# Altium footprint library Transformers.PcbLib: 55 footprints (part 3 of 4)
Each footprint in its own frame and in the unit in brackets; x right, y up, seen from the top. Pads: shape width x height; smd on the part's side, far side on the other; paste and mask are expansions set on the pad; w line width, h text height; cw(c..) or ccw(c..) is an arc to the next point about the centre after c.
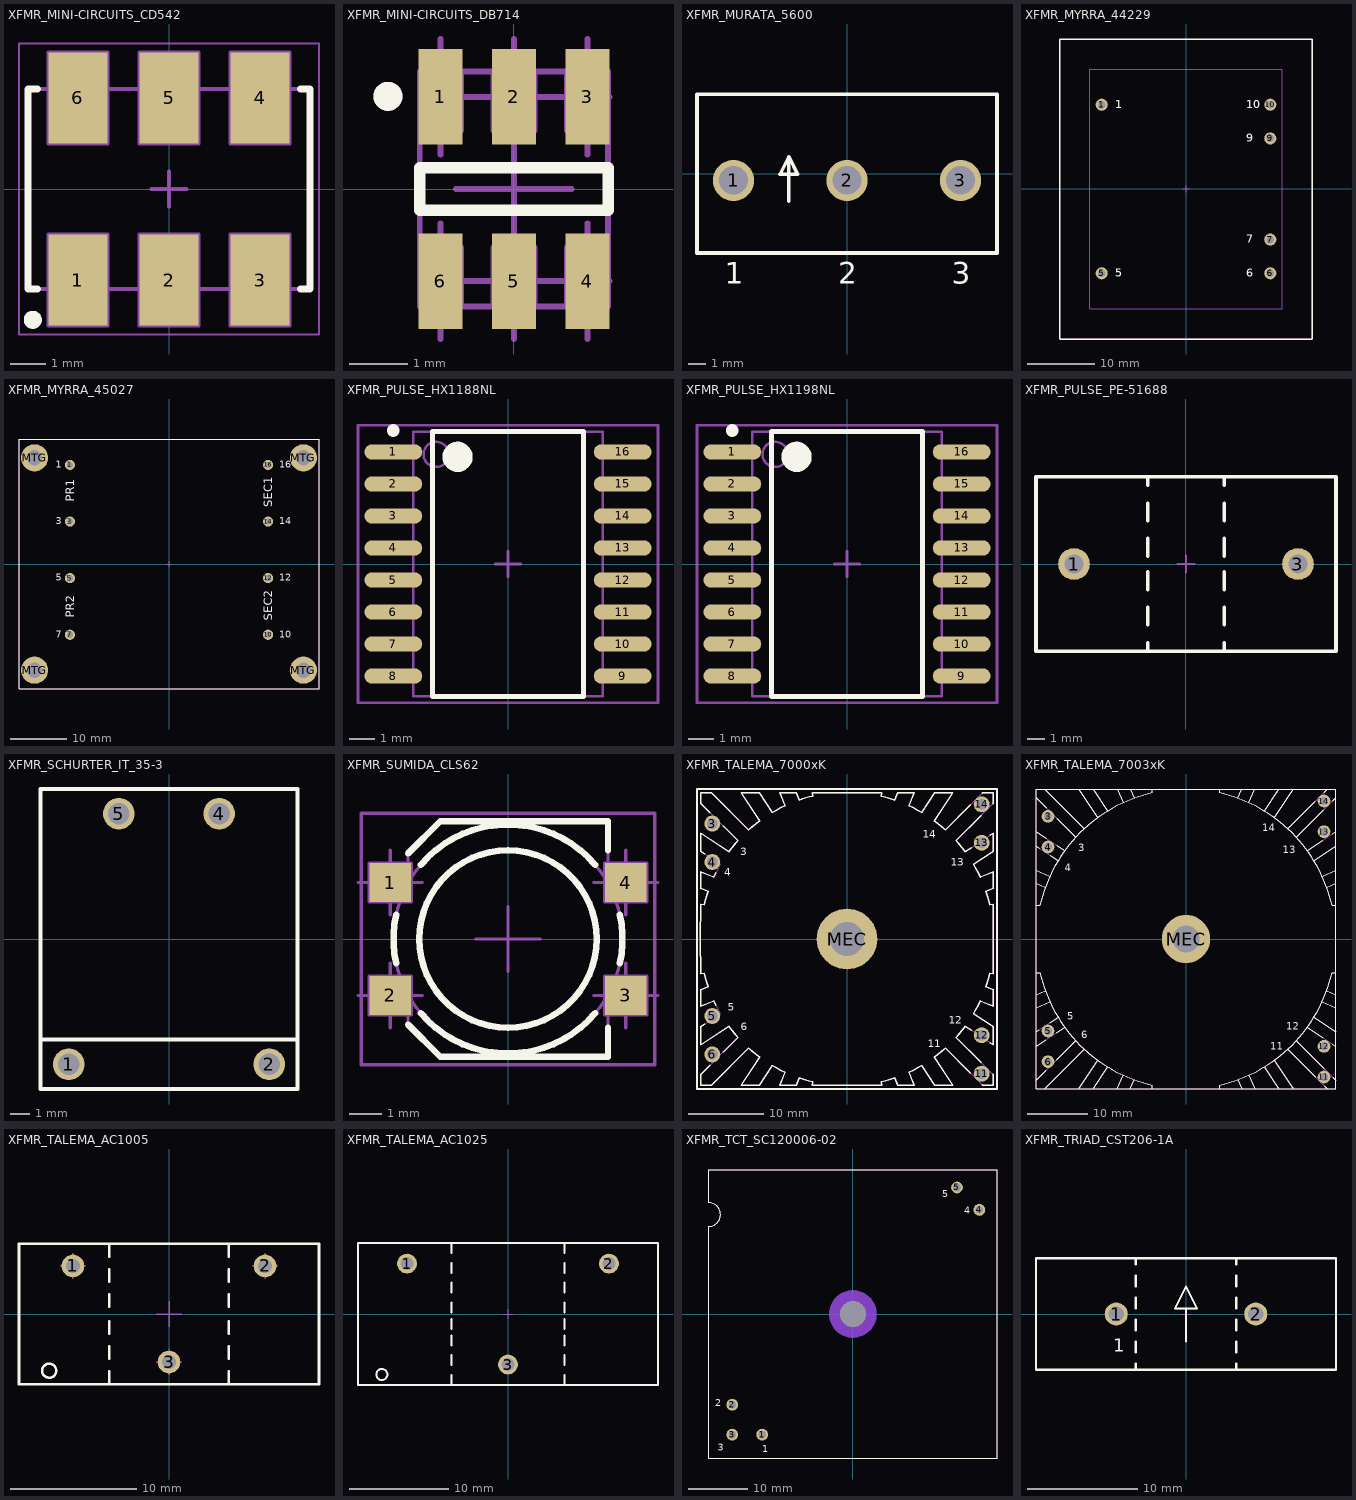
[diagram p2: the footprints below, top view; thin cyan lines are the x and y axes]

## XFMR_MINI-CIRCUITS_CD542 [mm] "MINI-CIRCUITS RF Transformer, Case CD542 - Body 7.87 X 5.58mm"
height 2.84
pads (6):
  rect 1.65x2.54 smd: 1(-2.54,-2.54) 2(0,-2.54) 3(2.54,-2.54) 4(2.54,2.54) 5(0,2.54) 6(-2.54,2.54)
Top Overlay:
  circle w0.25: c-3.8,-3.65 r0.125
  lines w0.2: -3.665,-2.79 -3.935,-2.79 -3.935,2.79 -3.665,2.79 ; 3.665,-2.79 3.935,-2.79 3.935,2.79 3.665,2.79
Mechanical 8:
  lines w0.1: -3.04,-2.54 -2.54,-2.54 ; -3.04,2.54 -2.54,2.54 ; -3.04,3.18 -2.54,3.18 ; -2.54,-3.04 -2.54,-2.54 ; -2.54,-2.04 -2.54,-2.54 ; -2.54,2.04 -2.54,2.54 ; -2.54,2.68 -2.54,3.18 ; -2.54,3.04 -2.54,2.54 ; -2.54,3.68 -2.54,3.18 ; -2.04,-2.54 -2.54,-2.54 ; -2.04,2.54 -2.54,2.54 ; -2.04,3.18 -2.54,3.18 ; -0.5,-2.54 0,-2.54 ; -0.5,0 0,0 ; -0.5,2.54 0,2.54 ; 0,-3.04 0,-2.54 ; 0,-2.04 0,-2.54 ; 0,-0.5 0,0 ; 0,0.5 0,0 ; 0,2.04 0,2.54 ; 0,3.04 0,2.54 ; 0.5,-2.54 0,-2.54 ; 0.5,0 0,0 ; 0.5,2.54 0,2.54 ; 2.04,-2.54 2.54,-2.54 ; 2.04,2.54 2.54,2.54 ; 2.54,-3.04 2.54,-2.54 ; 2.54,-2.04 2.54,-2.54 ; 2.54,2.04 2.54,2.54 ; 2.54,3.04 2.54,2.54 ; 3.04,-2.54 2.54,-2.54 ; 3.04,2.54 2.54,2.54 ; -3.365,-3.81 -3.365,-1.27 -1.715,-1.27 -1.715,-3.81 -3.365,-3.81 ; -3.365,1.27 -1.715,1.27 -1.715,3.81 -3.365,3.81 -3.365,1.27 ; -0.825,-3.81 0.825,-3.81 0.825,-1.27 -0.825,-1.27 -0.825,-3.81 ; -0.825,1.27 0.825,1.27 0.825,3.81 -0.825,3.81 -0.825,1.27 ; 1.715,-3.81 3.365,-3.81 3.365,-1.27 1.715,-1.27 1.715,-3.81 ; 1.715,1.27 3.365,1.27 3.365,3.81 1.715,3.81 1.715,1.27
Mechanical 14:
  circle w0.25: c-3.8,-3.65 r0.125
  lines w0.1: -2.92,-2.79 -2.92,-3.45 -2.16,-3.45 -2.16,-2.79 ; -2.92,2.79 -2.92,3.45 -2.16,3.45 -2.16,2.79 ; -0.38,-2.79 -0.38,-3.45 0.38,-3.45 0.38,-2.79 ; -0.38,2.79 -0.38,3.45 0.38,3.45 0.38,2.79 ; 2.16,-2.79 2.16,-3.45 2.92,-3.45 2.92,-2.79 ; 2.16,2.79 2.16,3.45 2.92,3.45 2.92,2.79 ; -3.935,-2.79 -3.935,2.79 3.935,2.79 3.935,-2.79 -3.935,-2.79
Mechanical 15:
  lines w0.05: -4.185,-4.06 -4.185,4.06 4.185,4.06 4.185,-4.06 -4.185,-4.06
3D body "XFMR_MINI-CIRCUITS_CD542.stp": height 2.84, standoff 0, extent -3.935,-3.45 3.935,3.45

## XFMR_MINI-CIRCUITS_DB714 [mm] "MINI-CIRCUITS RF Transformer, Case DB715 - Body 4.06X3.81mm"
height 4.06
pads (6):
  rect 0.76x1.65 smd: 1(-1.27,1.59) 2(0,1.59) 3(1.27,1.59) 4(1.27,-1.59) 5(0,-1.59) 6(-1.27,-1.59)
Top Overlay:
  circle w0.25: c-2.175,1.6 r0.125
  lines w0.2: -1.625,-0.365 -1.625,0.365 1.625,0.365 1.625,-0.365 -1.625,-0.365
Mechanical 8:
  lines w0.1: -1.27,-2.59 -1.27,-1.59 ; -1.27,-0.59 -1.27,-1.59 ; -1.27,0.59 -1.27,1.59 ; -1.27,2.59 -1.27,1.59 ; -1,0 0,0 ; 0,-2.59 0,-1.59 0,-0.59 ; 0,-1 0,0 ; 0,0.59 0,1.59 0,2.59 ; 0,1 0,0 ; 1,0 0,0 ; 1.27,-2.59 1.27,-1.59 1.27,-0.59 ; 1.27,0.59 1.27,1.59 1.27,2.59 ; 1.65,-1.59 -1.27,-1.59 ; 1.65,1.59 -1.27,1.59
Mechanical 14:
  circle w0.25: c-2.175,1.6 r0.125
  lines w0.1: -1.625,-2.03 -0.915,-2.03 -0.915,-1.01 -1.625,-1.01 -1.625,-2.03 ; -1.625,-2.03 -1.625,2.03 ; -1.625,-2.03 1.625,-2.03 ; -1.625,2.03 -0.915,2.03 -0.915,1.01 -1.625,1.01 -1.625,2.03 ; -1.625,2.03 1.625,2.03 ; 1.625,-2.03 1.625,-1.01 0.915,-1.01 0.915,-2.03 1.625,-2.03 ; 1.625,-2.03 1.625,2.03 ; 1.625,2.03 0.915,2.03 0.915,1.01 1.625,1.01 1.625,2.03 ; -0.355,-2.03 0.355,-2.03 0.355,-1.01 -0.355,-1.01 -0.355,-2.03 ; -0.355,1.01 0.355,1.01 0.355,2.03 -0.355,2.03 -0.355,1.01
3D body "XFMR_MINI-CIRCUITS_DB714.stp": height 3.76, standoff 0, extent -1.625,-2.03 1.625,2.03

## XFMR_MURATA_5600 [mm] "MURATA Current Sensing Transformer, Body 16.79x8.89mm, 5600 Serie"
height 20.44
pads (3):
  round 2.3 hole 1.6: 1(-6.35,-0.386) 2(0,-0.386) 3(6.35,-0.386)
Top Overlay:
  lines w0.2: -3.25,-1.55 -3.25,0.95 ; -3.25,0.95 -3.75,-0.05 -2.75,-0.05 -3.25,0.95 ; -8.395,-4.445 -8.395,4.445 8.395,4.445 8.395,-4.445 -8.395,-4.445
  text "1" at -6.84,-6.175 h1.2
  text "2" at -0.49,-6.175 h1.2
  text "3" at 5.86,-6.175 h1.2
Mechanical 8:
  lines w0.1: -6.85,-0.386 -6.35,-0.386 ; -6.35,-0.886 -6.35,-0.386 ; -6.35,0.114 -6.35,-0.386 ; -5.85,-0.386 -6.35,-0.386 ; -0.5,-0.386 0,-0.386 ; -0.5,0 0,0 ; 0,-0.886 0,-0.386 ; 0,0.5 0,0 ; 0.5,-0.386 0,-0.386 ; 0.5,0 0,0 ; 5.85,-0.386 6.35,-0.386 ; 6.35,-0.886 6.35,-0.386 ; 6.35,0.114 6.35,-0.386 ; 6.85,-0.386 6.35,-0.386
Mechanical 14:
  lines w0.1: -3.25,-1.55 -3.25,0.95 ; -3.25,0.95 -2.75,-0.05 -3.75,-0.05 -3.25,0.95 ; -8.395,-4.445 -8.395,4.445 8.395,4.445 8.395,-4.445 -8.395,-4.445
  text "1" at -6.84,-6.175 h1.2
  text "2" at -0.49,-6.175 h1.2
  text "3" at 5.86,-6.175 h1.2
3D body "XFMR_MURATA_56000.stp": height 20.19, standoff -3.6, extent -8.395,-4.445 8.395,4.445

## XFMR_MYRRA_44229 [mm] "250V to 6V EI 42x14.8, 5VA Encapsulated Transformer Serie  44000"
height 32.8
pads (6):
  round 1.8 hole 1.1: 1(-12.5,12.5) 5(-12.5,-12.5) 6(12.5,-12.5) 7(12.5,-7.5) 9(12.5,7.5) 10(12.5,12.5)
Top Overlay:
  lines w0.2: -18.75,-22.25 -18.75,22.25 18.75,22.25 18.75,-22.25 -18.75,-22.25
  text "1" at -10.475,12 h1.2
  text "5" at -10.475,-13 h1.2
  text "10" at 8.95,12 h1.2
  text "9" at 8.95,7 h1.2
  text "7" at 8.95,-8 h1.2
  text "6" at 8.95,-13 h1.2
  text "6" at 8.95,-13 h1.2
  text "7" at 8.95,-8 h1.2
  text "9" at 8.95,7 h1.2
  text "10" at 8.95,12 h1.2
  text "5" at -10.475,-13 h1.2
  text "1" at -10.475,12 h1.2
Mechanical 8:
  lines w0.1: -13,-12.5 -12.5,-12.5 ; -13,12.5 -12.5,12.5 ; -12.5,-13 -12.5,-12.5 ; -12.5,-12 -12.5,-12.5 ; -12.5,12 -12.5,12.5 ; -12.5,13 -12.5,12.5 ; -12,-12.5 -12.5,-12.5 ; -12,12.5 -12.5,12.5 ; -0.5,0 0,0 ; 0,-0.5 0,0 ; 0,0.5 0,0 ; 0.5,0 0,0 ; 12,-12.5 12.5,-12.5 ; 12,-7.5 12.5,-7.5 ; 12,7.5 12.5,7.5 ; 12,12.5 12.5,12.5 ; 12.5,-13 12.5,-12.5 ; 12.5,-12 12.5,-12.5 ; 12.5,-8 12.5,-7.5 ; 12.5,-7 12.5,-7.5 ; 12.5,7 12.5,7.5 ; 12.5,8 12.5,7.5 ; 12.5,12 12.5,12.5 ; 12.5,13 12.5,12.5 ; 13,-12.5 12.5,-12.5 ; 13,-7.5 12.5,-7.5 ; 13,7.5 12.5,7.5 ; 13,12.5 12.5,12.5
Mechanical 14:
  lines w0.1: -18.75,-22.25 -18.75,22.25 18.75,22.25 18.75,-22.25 -18.75,-22.25 ; -14.25,-17.75 14.25,-17.75 14.25,17.75 -14.25,17.75 -14.25,-17.75
3D body "XFMR_MYRRA_44229.stp": height 32.8, standoff -3.6, extent -18.75,-22.25 18.75,22.25

## XFMR_MYRRA_45027 [mm] "250V to 2x12V, UI 30, 6VA Encapsulated Transformer Serie  45000"
height 22
pads (12):
  round 1.8 hole 1.1: 1(-17.5,17.5) 3(-17.5,7.5) 5(-17.5,-2.5) 7(-17.5,-12.5) 10(17.5,-12.5) 12(17.5,-2.5) 14(17.5,7.5) 16(17.5,17.5)
  round 4.8 hole 2.7: MTG(-23.75,-18.75) MTG(-23.75,18.75) MTG(23.75,-18.75) MTG(23.75,18.75)
Top Overlay:
  lines w0.2: -26.5,-22 26.5,-22 26.5,22 -26.5,22 -26.5,-22
  text "SEC1" at 18.25,10 h1.5
  text "SEC2" at 18.25,-10 h1.5
  text "PR2" at -16.75,-9.5 h1.5
  text "PR1" at -16.75,11 h1.5
  text "1" at -20,17 h1.2
  text "3" at -20,7 h1.2
  text "5" at -20,-3 h1.2
  text "7" at -20,-13 h1.2
  text "16" at 19.5,17 h1.2
  text "14" at 19.5,7 h1.2
  text "12" at 19.5,-3 h1.2
  text "10" at 19.5,-13 h1.2
Mechanical 8:
  lines w0.1: -24.25,-18.75 -23.75,-18.75 ; -24.25,18.75 -23.75,18.75 ; -23.75,-19.25 -23.75,-18.75 ; -23.75,-18.25 -23.75,-18.75 ; -23.75,18.25 -23.75,18.75 ; -23.75,19.25 -23.75,18.75 ; -23.25,-18.75 -23.75,-18.75 ; -23.25,18.75 -23.75,18.75 ; -18,-12.5 -17.5,-12.5 ; -18,-2.5 -17.5,-2.5 ; -18,7.5 -17.5,7.5 ; -18,17.5 -17.5,17.5 ; -17.5,-13 -17.5,-12.5 ; -17.5,-12 -17.5,-12.5 ; -17.5,-3 -17.5,-2.5 ; -17.5,-2 -17.5,-2.5 ; -17.5,7 -17.5,7.5 ; -17.5,8 -17.5,7.5 ; -17.5,17 -17.5,17.5 ; -17.5,18 -17.5,17.5 ; -17,-12.5 -17.5,-12.5 ; -17,-2.5 -17.5,-2.5 ; -17,7.5 -17.5,7.5 ; -17,17.5 -17.5,17.5 ; -0.5,0 0,0 ; 0,-0.5 0,0 ; 0,0.5 0,0 ; 0.5,0 0,0 ; 17,-12.5 17.5,-12.5 ; 17,-2.5 17.5,-2.5 ; 17,7.5 17.5,7.5 ; 17,17.5 17.5,17.5 ; 17.5,-13 17.5,-12.5 ; 17.5,-12 17.5,-12.5 ; 17.5,-3 17.5,-2.5 ; 17.5,-2 17.5,-2.5 ; 17.5,7 17.5,7.5 ; 17.5,8 17.5,7.5 ; 17.5,17 17.5,17.5 ; 17.5,18 17.5,17.5 ; 18,-12.5 17.5,-12.5 ; 18,-2.5 17.5,-2.5 ; 18,7.5 17.5,7.5 ; 18,17.5 17.5,17.5 ; 23.25,-18.75 23.75,-18.75 ; 23.25,18.75 23.75,18.75 ; 23.75,-19.25 23.75,-18.75 ; 23.75,-18.25 23.75,-18.75 ; 23.75,18.25 23.75,18.75 ; 23.75,19.25 23.75,18.75 ; 24.25,-18.75 23.75,-18.75 ; 24.25,18.75 23.75,18.75
Mechanical 14:
  lines w0.1: -26.5,-22 26.5,-22 26.5,22 -26.5,22 -26.5,-22
3D body "XFMR_MYRRA_45027.stp": height 22, standoff -4, extent -26.5,-22 26.5,22

## XFMR_PULSE_HX1188NL [mm] "SOIC, 16-Leads, Body 12.7x9.65mm, Pitch 1.27mm, IPC Medium Density"
height 5.97
pads (16):
  oval 2.3x0.6 smd: 1(-4.55,4.445) 2(-4.55,3.175) 3(-4.55,1.905) 4(-4.55,0.635) 5(-4.55,-0.635) 6(-4.55,-1.905) 7(-4.55,-3.175) 8(-4.55,-4.445) 9(4.55,-4.445) 10(4.55,-3.175) 11(4.55,-1.905) 12(4.55,-0.635) 13(4.55,0.635) 14(4.55,1.905) 15(4.55,3.175) 16(4.55,4.445)
Top Overlay:
  circle w0.6: c-2,4.25 r0.3
  circle w0.25: c-4.55,5.295 r0.125
  lines w0.2: -3,-5.25 3,-5.25 3,5.25 -3,5.25 -3,-5.25
Mechanical 13:
  circle w0.1: c-2.85,4.35 r0.5
  lines w0.1: -3.75,-5.25 3.75,-5.25 3.75,5.25 -3.75,5.25 -3.75,-5.25
Mechanical 15:
  lines w0.1: -0.5,0 0.5,0 ; 0,-0.5 0,0.5 ; -5.95,-5.5 5.95,-5.5 5.95,5.5 -5.95,5.5 -5.95,-5.5
3D body: height 2.65, standoff 0, extent -3.75,-5.25 3.75,5.25

## XFMR_PULSE_HX1198NL [mm] "SOIC, 16-Leads, Body 12.7x9.65mm, Pitch 1.27mm, IPC Medium Density"
height 5.97
pads (16):
  oval 2.3x0.6 smd: 1(-4.55,4.445) 2(-4.55,3.175) 3(-4.55,1.905) 4(-4.55,0.635) 5(-4.55,-0.635) 6(-4.55,-1.905) 7(-4.55,-3.175) 8(-4.55,-4.445) 9(4.55,-4.445) 10(4.55,-3.175) 11(4.55,-1.905) 12(4.55,-0.635) 13(4.55,0.635) 14(4.55,1.905) 15(4.55,3.175) 16(4.55,4.445)
Top Overlay:
  circle w0.6: c-2,4.25 r0.3
  circle w0.25: c-4.55,5.295 r0.125
  lines w0.2: -3,-5.25 3,-5.25 3,5.25 -3,5.25 -3,-5.25
Mechanical 13:
  circle w0.1: c-2.85,4.35 r0.5
  lines w0.1: -3.75,-5.25 3.75,-5.25 3.75,5.25 -3.75,5.25 -3.75,-5.25
Mechanical 15:
  lines w0.1: -0.5,0 0.5,0 ; 0,-0.5 0,0.5 ; -5.95,-5.5 5.95,-5.5 5.95,5.5 -5.95,5.5 -5.95,-5.5
3D body: height 2.65, standoff 0, extent -3.75,-5.25 3.75,5.25

## XFMR_PULSE_PE-51688 [mm] "20kHz To 200kHz 20A Current Sense Transformer, Body 17.01mm x 9.906mm"
height 20.32
pads (2):
  round 1.8 hole 1.1: 1(-6.35,0) 3(6.35,0)
Top Overlay:
  lines w0.2: -2.16,-4.953 -2.16,-4.453 ; -2.16,-3.453 -2.16,-2.453 ; -2.16,-1.453 -2.16,-0.453 ; -2.16,0.453 -2.16,1.453 ; -2.16,2.453 -2.16,3.453 ; -2.16,4.453 -2.16,4.953 ; 2.16,-4.953 2.16,-4.453 ; 2.16,-3.453 2.16,-2.453 ; 2.16,-1.453 2.16,-0.453 ; 2.16,0.453 2.16,1.453 ; 2.16,2.453 2.16,3.453 ; 2.16,4.453 2.16,4.953 ; -8.505,-4.953 8.505,-4.953 8.505,4.953 -8.505,4.953 -8.505,-4.953
Mechanical 8:
  lines w0.1: -6.85,0 -6.35,0 ; -6.35,-0.5 -6.35,0 ; -6.35,0.5 -6.35,0 ; -5.85,0 -6.35,0 ; -0.5,0 0,0 ; 0,-0.5 0,0 ; 0,0.5 0,0 ; 0.5,0 0,0 ; 5.85,0 6.35,0 ; 6.35,-0.5 6.35,0 ; 6.35,0.5 6.35,0 ; 6.85,0 6.35,0
Mechanical 14:
  lines w0.1: -2.16,-4.953 -2.16,-4.453 ; -2.16,-3.453 -2.16,-2.453 ; -2.16,-1.453 -2.16,-0.453 ; -2.16,0.453 -2.16,1.453 ; -2.16,2.453 -2.16,3.453 ; -2.16,4.453 -2.16,4.953 ; 2.16,-4.953 2.16,-4.453 ; 2.16,-3.453 2.16,-2.453 ; 2.16,-1.453 2.16,-0.453 ; 2.16,0.453 2.16,1.453 ; 2.16,2.453 2.16,3.453 ; 2.16,4.453 2.16,4.953 ; -8.505,-4.953 8.505,-4.953 8.505,4.953 -8.505,4.953 -8.505,-4.953
3D body "XFMR_PULSE_PE-51688.stp": height 20.28, standoff -3.22, extent -8.505,-4.953 8.505,4.953

## XFMR_SCHURTER_IT_35-3 [mm] "Pulse Transformer, Serie IT, Case 35-3,  Body 15.2mm x 13mm"
height 10.6
pads (4):
  round 1.6 hole 1.1: 1(-5.08,-6.35) 2(5.08,-6.35) 4(2.54,6.35) 5(-2.54,6.35)
Top Overlay:
  lines w0.2: -6.5,-5.1 6.5,-5.1 ; -6.5,-7.6 -6.5,7.6 6.5,7.6 6.5,-7.6 -6.5,-7.6
Mechanical 14:
  lines w0.1: -6.5,-5.1 6.5,-5.1 ; -6.5,-7.6 -6.5,7.6 6.5,7.6 6.5,-7.6 -6.5,-7.6
3D body "XFMR_SCHURTER_IT_35-3.stp": height 10.6, standoff -3.6, extent -6.5,-7.6 6.5,7.6

## XFMR_SUMIDA_CLS62 [mm] "SMD Power Inductor CLS62 Serie"
height 2.5
pads (4):
  rect 1.3x1.2 smd: 1(-3.65,1.75) 2(-3.65,-1.75) 3(3.65,-1.75) 4(3.65,1.75)
Top Overlay:
  circle w0.2: c0,0 r2.75
  lines w0.2: -3.47,-0.75 cw(c0,0) -3.47,0.75 ; -3.1,-2.65 -2.1,-3.65 3.1,-3.65 3.1,-2.75 ; -3.1,2.65 -2.1,3.65 3.1,3.65 3.1,2.75 ; -2.7,-2.305 ccw(c0,0) 2.7,-2.305 ; -2.7,2.305 cw(c0,0) 2.7,2.305 ; 3.47,-0.75 ccw(c0,0) 3.47,0.75
Mechanical 8:
  lines w0.1: -4.65,-1.75 -3.65,-1.75 ; -4.65,1.75 -3.65,1.75 ; -3.65,-2.75 -3.65,-1.75 ; -3.65,-0.75 -3.65,-1.75 ; -3.65,0.75 -3.65,1.75 ; -3.65,2.75 -3.65,1.75 ; -2.65,-1.75 -3.65,-1.75 ; -2.65,1.75 -3.65,1.75 ; -1,0 0,0 ; 0,-1 0,0 ; 0,1 0,0 ; 1,0 0,0 ; 2.65,-1.75 3.65,-1.75 ; 2.65,1.75 3.65,1.75 ; 3.65,-2.75 3.65,-1.75 ; 3.65,-0.75 3.65,-1.75 ; 3.65,0.75 3.65,1.75 ; 3.65,2.75 3.65,1.75 ; 4.65,-1.75 3.65,-1.75 ; 4.65,1.75 3.65,1.75 ; -4.3,-2.35 -4.3,-1.15 -3,-1.15 -3,-2.35 -4.3,-2.35 ; -4.3,1.15 -4.3,2.35 -3,2.35 -3,1.15 -4.3,1.15 ; 3,-2.35 3,-1.15 4.3,-1.15 4.3,-2.35 3,-2.35 ; 3,1.15 3,2.35 4.3,2.35 4.3,1.15 3,1.15
Mechanical 14:
  circle w0.1: c0,0 r3.55
  circle w0.1: c0,0 r2.75
  lines w0.1: -3.6,-2.15 -3.6,-1.35 ; -3.6,1.35 -3.6,2.15 ; -3.283,-1.35 -4,-1.35 -4,-2.15 -3.1,-2.15 ; -3.283,1.35 -4,1.35 -4,2.15 -3.1,2.15 ; -3.1,-1.73 -3.1,-2.65 -2.1,-3.65 3.1,-3.65 3.1,-1.73 ; -3.1,1.73 -3.1,2.65 -2.1,3.65 3.1,3.65 3.1,1.73 ; 3.1,-2.15 4,-2.15 4,-1.35 3.283,-1.35 ; 3.1,2.15 4,2.15 4,1.35 3.283,1.35 ; 3.6,-2.15 3.6,-1.35 ; 3.6,1.35 3.6,2.15
Mechanical 15:
  lines w0.1: -4.55,-3.9 -4.55,3.9 4.55,3.9 4.55,-3.9 -4.55,-3.9
3D body "XFMR_SUMIDA_CLS62.stp": height 2.5, standoff 0, extent -4,-3.65 4,3.65

## XFMR_TALEMA_7000xK [mm] "1.6VA Toroidal Transformer, Body 39.6mm x 39.6mm, 70000 Serie"
height 18.5
pads (9):
  round 2.1 hole 1.4: 3(-17.78,15.24) 4(-17.78,10.16) 5(-17.78,-10.16) 6(-17.78,-15.24) 11(17.78,-17.78) 12(17.78,-12.7) 13(17.78,12.7) 14(17.78,17.78)
  round 8 hole 4.5: MEC(0,0)
Top Overlay:
  lines w0.2: -18.81,-11.251 -19.321,-11.589 -19.321,-13.987 -15.604,-11.527 ccw(c0,0) -14.407,-12.993 -16.318,-14.904 ; -18.81,11.251 -19.321,11.589 -19.321,13.987 -15.604,11.527 cw(c0,0) -14.407,12.993 -16.318,14.904 ; -18.116,-16.702 -19.321,-17.907 -19.321,-19.321 -17.907,-19.321 -12.993,-14.407 ccw(c0,0) -11.527,-15.604 -13.987,-19.321 -11.589,-19.321 -9.859,-16.708 ccw(c0,0) -8.185,-17.589 -8.885,-19.321 -6.728,-19.321 -6.331,-18.338 ccw(c0,0) -4.514,-18.868 -4.598,-19.321 4.598,-19.321 4.514,-18.868 ccw(c0,0) 6.331,-18.338 6.728,-19.321 8.885,-19.321 8.185,-17.589 ccw(c0,0) 9.859,-16.708 11.589,-19.321 13.987,-19.321 11.527,-15.604 ccw(c0,0) 12.993,-14.407 16.282,-17.697 ; -18.116,16.702 -19.321,17.907 -19.321,19.321 -17.907,19.321 -12.993,14.407 cw(c0,0) -11.527,15.604 -13.987,19.321 -11.589,19.321 -9.859,16.708 cw(c0,0) -8.185,17.589 -8.885,19.321 -6.728,19.321 -6.331,18.338 cw(c-2.522,8.654) -4.514,18.868 -4.598,19.321 4.598,19.321 4.514,18.868 cw(c0,0) 6.331,18.338 6.728,19.321 8.885,19.321 8.185,17.589 cw(c0,0) 9.859,16.708 11.589,19.321 13.987,19.321 11.527,15.604 cw(c0,0) 12.993,14.407 16.282,17.697 ; -17.324,-8.731 cw(c0,0) -17.589,-8.185 -19.321,-8.885 -19.321,-6.728 -18.338,-6.331 cw(c0,0) -18.868,-4.514 -19.321,-4.598 -19.4,0 -19.321,4.598 -18.868,4.514 cw(c0,0) -18.338,6.331 -19.321,6.728 -19.321,8.885 -17.589,8.185 cw(c0,0) -17.324,8.731 ; 16.42,-12.067 15.604,-11.527 cw(c0,0) 14.407,-12.993 17.697,-16.282 ; 16.42,12.067 15.604,11.527 ccw(c0,0) 14.407,12.993 17.697,16.282 ; 17.863,-19.278 17.908,-19.322 19.321,-19.321 19.321,-17.907 19.278,-17.863 ; 17.863,19.278 17.907,19.321 19.321,19.321 19.321,17.907 19.278,17.863 ; 18.894,-13.705 19.321,-13.987 19.321,-11.589 16.708,-9.859 ccw(c0,0) 17.589,-8.185 19.321,-8.885 19.321,-6.728 18.338,-6.331 ccw(c0,0) 18.868,-4.514 19.321,-4.598 19.321,4.598 18.868,4.514 ccw(c0,0) 18.338,6.331 19.321,6.728 19.321,8.885 17.589,8.185 ccw(c0,0) 16.708,9.859 19.321,11.589 19.321,13.987 18.894,13.705 ; -19.805,-19.805 -19.805,19.805 19.805,19.805 19.805,-19.805 -19.805,-19.805
  text "14" at 10,13.375 h1
  text "13" at 13.7,9.65 h1
  text "11" at 10.675,-14.3 h1
  text "12" at 13.425,-11.175 h1
  text "5" at -15.775,-9.475 h1
  text "6" at -14.025,-12.05 h1
  text "4" at -16.2,8.35 h1
  text "3" at -14.075,11.025 h1
Mechanical 8:
  lines w0.1: -18.28,-15.24 -17.78,-15.24 ; -18.28,-10.16 -17.78,-10.16 ; -18.28,10.16 -17.78,10.16 ; -18.28,15.24 -17.78,15.24 ; -17.78,-15.74 -17.78,-15.24 ; -17.78,-14.74 -17.78,-15.24 ; -17.78,-10.66 -17.78,-10.16 ; -17.78,-9.66 -17.78,-10.16 ; -17.78,9.66 -17.78,10.16 ; -17.78,10.66 -17.78,10.16 ; -17.78,14.74 -17.78,15.24 ; -17.78,15.74 -17.78,15.24 ; -17.28,-15.24 -17.78,-15.24 ; -17.28,-10.16 -17.78,-10.16 ; -17.28,10.16 -17.78,10.16 ; -17.28,15.24 -17.78,15.24 ; -0.5,0 0,0 ; 0,-0.5 0,0 ; 0,0.5 0,0 ; 0.5,0 0,0 ; 17.28,-17.78 17.78,-17.78 ; 17.28,-12.7 17.78,-12.7 ; 17.28,12.7 17.78,12.7 ; 17.28,17.78 17.78,17.78 ; 17.78,-18.28 17.78,-17.78 ; 17.78,-17.28 17.78,-17.78 ; 17.78,-13.2 17.78,-12.7 ; 17.78,-12.2 17.78,-12.7 ; 17.78,12.2 17.78,12.7 ; 17.78,13.2 17.78,12.7 ; 17.78,17.28 17.78,17.78 ; 17.78,18.28 17.78,17.78 ; 18.28,-17.78 17.78,-17.78 ; 18.28,-12.7 17.78,-12.7 ; 18.28,12.7 17.78,12.7 ; 18.28,17.78 17.78,17.78
Mechanical 14:
  circle w0.1: c0,0 r1.8
  lines w0.1: -19.805,-19.805 -19.805,19.805 19.805,19.805 19.805,-19.805 -19.805,-19.805 ; -19.4,0 -19.321,4.598 -18.868,4.514 cw(c0,0) -18.338,6.331 -19.321,6.728 -19.321,8.885 -17.589,8.185 cw(c0,0) -16.708,9.859 -19.321,11.589 -19.321,13.987 -15.604,11.527 cw(c0,0) -14.407,12.993 -19.321,17.907 -19.321,19.321 -17.907,19.321 -12.993,14.407 cw(c0,0) -11.527,15.604 -13.987,19.321 -11.589,19.321 -9.859,16.708 cw(c0,0) -8.185,17.589 -8.885,19.321 -6.728,19.321 -6.331,18.338 cw(c-2.522,8.654) -4.514,18.868 -4.598,19.321 4.598,19.321 4.514,18.868 cw(c0,0) 6.331,18.338 6.728,19.321 8.885,19.321 8.185,17.589 cw(c0,0) 9.859,16.708 11.589,19.321 13.987,19.321 11.527,15.604 cw(c0,0) 12.993,14.407 17.907,19.321 19.321,19.321 19.321,17.907 14.407,12.993 cw(c0,0) 15.604,11.527 19.321,13.987 19.321,11.589 16.708,9.859 cw(c0,0) 17.589,8.185 19.321,8.885 19.321,6.728 18.338,6.331 cw(c0,0) 18.868,4.514 19.321,4.598 19.321,-4.598 18.868,-4.514 cw(c0,0) 18.338,-6.331 19.321,-6.728 19.321,-8.885 17.589,-8.185 cw(c0,0) 16.708,-9.859 19.321,-11.589 19.321,-13.987 15.604,-11.527 cw(c0,0) 14.407,-12.993 19.321,-17.907 19.321,-19.321 17.908,-19.322 12.993,-14.407 cw(c0,0) 11.527,-15.604 13.987,-19.321 11.589,-19.321 9.859,-16.708 cw(c0,0) 8.185,-17.589 8.885,-19.321 6.728,-19.321 6.331,-18.338 cw(c0,0) 4.514,-18.868 4.598,-19.321 -4.598,-19.321 -4.514,-18.868 cw(c0,0) -6.331,-18.338 -6.728,-19.321 -8.885,-19.321 -8.185,-17.589 cw(c0,0) -9.859,-16.708 -11.589,-19.321 -13.987,-19.321 -11.527,-15.604 cw(c0,0) -12.993,-14.407 -17.907,-19.321 -19.321,-19.321 -19.321,-17.907 -14.407,-12.993 cw(c0,0) -15.604,-11.527 -19.321,-13.987 -19.321,-11.589 -16.708,-9.859 cw(c0,0) -17.589,-8.185 -19.321,-8.885 -19.321,-6.728 -18.338,-6.331 cw(c0,0) -18.868,-4.514 -19.321,-4.598 -19.4,0
3D body "XFMR_TALEMA_7000xK.stp": height 18.5, standoff -5.2, extent -19.805,-19.805 19.805,19.805

## XFMR_TALEMA_7003xK [mm] "7VA Toroidal Transformer, Body 49.7mm x 49.7mm, 70000 Serie"
height 23.1
pads (9):
  round 2.1 hole 1.4: 3(-22.86,20.32) 4(-22.86,15.24) 5(-22.86,-15.24) 6(-22.86,-20.32) 11(22.86,-22.86) 12(22.86,-17.78) 13(22.86,17.78) 14(22.86,22.86)
  round 8 hole 4.5: MEC(0,0)
Top Overlay:
  lines w0.2: -24.85,-5.6 -24.199,-5.6 ccw(c0.005,0.005) -5.6,-24.199 -5.6,-24.84 ; -24.85,5.6 -24.199,5.6 cw(c0.005,-0.005) -5.6,24.199 -5.6,24.84 ; -24.84,-23.426 -23.154,-21.74 ; -24.84,-17.8 -23.138,-16.663 ; -24.84,-15.395 -24.295,-15.031 ; -24.84,-11.371 -22.546,-10.421 ; -24.84,-9.207 -23.311,-8.573 ; -24.84,9.207 -23.311,8.573 ; -24.84,11.371 -22.546,10.421 ; -24.84,15.395 -24.295,15.031 ; -24.84,17.8 -23.138,16.663 ; -24.84,23.426 -23.154,21.74 ; -23.426,-24.84 -16.842,-18.256 ; -23.426,24.84 -16.842,18.256 ; -22.504,-13.834 -21.191,-12.957 ; -22.504,13.834 -21.191,12.957 ; -21.44,-20.026 -18.256,-16.842 ; -21.44,20.026 -18.256,16.842 ; -21.439,-15.528 -20.08,-14.619 ; -21.439,15.528 -20.08,14.619 ; -17.8,-24.84 -14.619,-20.08 ; -17.8,24.84 -14.619,20.08 ; -15.395,-24.84 -12.957,-21.191 ; -15.395,24.84 -12.957,21.191 ; -11.371,-24.84 -10.421,-22.546 ; -11.371,24.84 -10.421,22.546 ; -9.207,-24.84 -8.573,-23.311 ; -9.207,24.84 -8.573,23.311 ; 5.6,-24.84 5.6,-24.199 ccw(c-0.005,0.005) 24.199,-5.6 24.85,-5.6 ; 5.6,24.84 5.6,24.199 cw(c-0.005,-0.005) 24.199,5.6 24.85,5.6 ; 8.573,-23.311 9.207,-24.84 ; 8.573,23.311 9.207,24.84 ; 10.421,-22.546 11.371,-24.84 ; 10.421,22.546 11.371,24.84 ; 12.957,-21.191 15.395,-24.84 ; 12.957,21.191 15.395,24.84 ; 14.619,-20.08 17.8,-24.84 ; 14.619,20.08 17.8,24.84 ; 16.842,-18.256 21.41,-22.825 ; 16.842,18.256 21.41,22.825 ; 18.256,-16.842 22.825,-21.41 ; 18.256,16.842 22.825,21.41 ; 20.08,-14.619 22.66,-16.344 ; 20.08,14.619 22.66,16.344 ; 21.191,-12.957 24.84,-15.395 ; 21.191,12.957 24.84,15.395 ; 22.546,-10.421 24.84,-11.371 ; 22.546,10.421 24.84,11.371 ; 22.895,-24.31 23.426,-24.84 ; 22.895,24.31 23.426,24.84 ; 23.311,-8.573 24.84,-9.207 ; 23.311,8.573 24.84,9.207 ; 24.263,-17.415 24.84,-17.8 ; 24.263,17.415 24.84,17.8 ; 24.31,-22.895 24.84,-23.426 ; 24.31,22.895 24.84,23.426 ; -24.85,-24.85 -24.84,24.84 24.85,24.84 24.84,-24.84 -24.85,-24.85 ; -24.85,-24.85 24.85,-24.85 24.85,24.85 -24.85,24.85 -24.85,-24.85
  text "14" at 12.625,17.875 h1.2
  text "13" at 16.05,14.175 h1.2
  text "11" at 13.925,-18.325 h1.2
  text "12" at 16.6,-15 h1.2
  text "5" at -19.65,-13.375 h1.2
  text "6" at -17.35,-16.475 h1.2
  text "4" at -20.1,11.25 h1.2
  text "3" at -17.85,14.55 h1.2
Mechanical 8:
  lines w0.1: -23.36,-20.32 -22.86,-20.32 ; -23.36,-15.24 -22.86,-15.24 ; -23.36,15.24 -22.86,15.24 ; -23.36,20.32 -22.86,20.32 ; -22.86,-20.82 -22.86,-20.32 ; -22.86,-19.82 -22.86,-20.32 ; -22.86,-15.74 -22.86,-15.24 ; -22.86,-14.74 -22.86,-15.24 ; -22.86,14.74 -22.86,15.24 ; -22.86,15.74 -22.86,15.24 ; -22.86,19.82 -22.86,20.32 ; -22.86,20.82 -22.86,20.32 ; -22.36,-20.32 -22.86,-20.32 ; -22.36,-15.24 -22.86,-15.24 ; -22.36,15.24 -22.86,15.24 ; -22.36,20.32 -22.86,20.32 ; -0.5,0 0,0 ; 0,-0.5 0,0 ; 0,0.5 0,0 ; 0.5,0 0,0 ; 22.36,-22.86 22.86,-22.86 ; 22.36,-17.78 22.86,-17.78 ; 22.36,17.78 22.86,17.78 ; 22.36,22.86 22.86,22.86 ; 22.86,-23.36 22.86,-22.86 ; 22.86,-22.36 22.86,-22.86 ; 22.86,-18.28 22.86,-17.78 ; 22.86,-17.28 22.86,-17.78 ; 22.86,17.28 22.86,17.78 ; 22.86,18.28 22.86,17.78 ; 22.86,22.36 22.86,22.86 ; 22.86,23.36 22.86,22.86 ; 23.36,-22.86 22.86,-22.86 ; 23.36,-17.78 22.86,-17.78 ; 23.36,17.78 22.86,17.78 ; 23.36,22.86 22.86,22.86
Mechanical 14:
  lines w0.1: -24.85,-5.6 -24.199,-5.6 ccw(c0.005,0.005) -5.6,-24.199 -5.6,-24.84 ; -24.85,5.6 -24.199,5.6 cw(c0.005,-0.005) -5.6,24.199 -5.6,24.84 ; -24.84,-23.426 -18.256,-16.842 ; -24.84,-17.8 -20.08,-14.619 ; -24.84,-15.395 -21.191,-12.957 ; -24.84,-11.371 -22.546,-10.421 ; -24.84,-9.207 -23.311,-8.573 ; -24.84,9.207 -23.311,8.573 ; -24.84,11.371 -22.546,10.421 ; -24.84,15.395 -21.191,12.957 ; -24.84,17.8 -20.08,14.619 ; -24.84,23.426 -18.256,16.842 ; -23.426,-24.84 -16.842,-18.256 ; -23.426,24.84 -16.842,18.256 ; -17.8,-24.84 -14.619,-20.08 ; -17.8,24.84 -14.619,20.08 ; -15.395,-24.84 -12.957,-21.191 ; -15.395,24.84 -12.957,21.191 ; -11.371,-24.84 -10.421,-22.546 ; -11.371,24.84 -10.421,22.546 ; -9.207,-24.84 -8.573,-23.311 ; -9.207,24.84 -8.573,23.311 ; 5.6,-24.84 5.6,-24.199 ccw(c-0.005,0.005) 24.199,-5.6 24.85,-5.6 ; 5.6,24.84 5.6,24.199 cw(c-0.005,-0.005) 24.199,5.6 24.85,5.6 ; 8.573,-23.311 9.207,-24.84 ; 8.573,23.311 9.207,24.84 ; 10.421,-22.546 11.371,-24.84 ; 10.421,22.546 11.371,24.84 ; 12.957,-21.191 15.395,-24.84 ; 12.957,21.191 15.395,24.84 ; 14.619,-20.08 17.8,-24.84 ; 14.619,20.08 17.8,24.84 ; 16.842,-18.256 23.426,-24.84 ; 16.842,18.256 23.426,24.84 ; 18.256,-16.842 24.84,-23.426 ; 18.256,16.842 24.84,23.426 ; 20.08,-14.619 24.84,-17.8 ; 20.08,14.619 24.84,17.8 ; 21.191,-12.957 24.84,-15.395 ; 21.191,12.957 24.84,15.395 ; 22.546,-10.421 24.84,-11.371 ; 22.546,10.421 24.84,11.371 ; 23.311,-8.573 24.84,-9.207 ; 23.311,8.573 24.84,9.207 ; -24.85,-24.85 -24.84,24.84 24.85,24.84 24.84,-24.84 -24.85,-24.85 ; -24.85,-24.85 24.85,-24.85 24.85,24.85 -24.85,24.85 -24.85,-24.85
3D body "XFMR_TALEMA_7003xK.stp": height 23.1, standoff -3.8, extent -24.85,-24.85 24.85,24.85

## XFMR_TALEMA_AC1005 [mm] "Low Cost 50/60Hz 5A Current Transformer, Body 23.8mm x 11.12mm"
height 23.8
pads (3):
  round 1.8 hole 1.1: 1(-7.62,3.81) 2(7.62,3.81) 3(0,-3.81)
Top Overlay:
  circle w0.2: c-9.5,-4.5 r0.559
  lines w0.2: -4.75,-5.56 -4.75,-4.56 ; -4.75,-3.56 -4.75,-2.56 ; -4.75,-1.56 -4.75,-0.56 ; -4.75,0.56 -4.75,1.56 ; -4.75,2.56 -4.75,3.56 ; -4.75,4.56 -4.75,5.56 ; 4.75,-5.56 4.75,-4.56 ; 4.75,-3.56 4.75,-2.56 ; 4.75,-1.56 4.75,-0.56 ; 4.75,0.56 4.75,1.56 ; 4.75,2.56 4.75,3.56 ; 4.75,4.56 4.75,5.56 ; -11.9,-5.56 11.9,-5.56 11.9,5.56 -11.9,5.56 -11.9,-5.56
Mechanical 8:
  lines w0.1: -8.62,3.81 -7.62,3.81 ; -7.62,2.81 -7.62,3.81 ; -7.62,4.81 -7.62,3.81 ; -6.62,3.81 -7.62,3.81 ; -1,-3.81 0,-3.81 ; -1,0 0,0 ; 0,-4.81 0,-3.81 ; 0,-2.81 0,-3.81 ; 0,-1 0,0 ; 0,1 0,0 ; 1,-3.81 0,-3.81 ; 1,0 0,0 ; 6.62,3.81 7.62,3.81 ; 7.62,2.81 7.62,3.81 ; 7.62,4.81 7.62,3.81 ; 8.62,3.81 7.62,3.81
Mechanical 14:
  circle w0.1: c-9.5,-4.5 r0.559
  lines w0.1: -4.75,-5.56 -4.75,-4.56 ; -4.75,-3.56 -4.75,-2.56 ; -4.75,-1.56 -4.75,-0.56 ; -4.75,0.56 -4.75,1.56 ; -4.75,2.56 -4.75,3.56 ; -4.75,4.56 -4.75,5.56 ; 4.75,-5.56 4.75,-4.56 ; 4.75,-3.56 4.75,-2.56 ; 4.75,-1.56 4.75,-0.56 ; 4.75,0.56 4.75,1.56 ; 4.75,2.56 4.75,3.56 ; 4.75,4.56 4.75,5.56 ; -11.9,-5.56 11.9,-5.56 11.9,5.56 -11.9,5.56 -11.9,-5.56
3D body "XFMR_TALEMA_AC1005.stp": height 23.8, standoff -3.8, extent -11.9,-5.56 11.9,5.56

## XFMR_TALEMA_AC1025 [mm] "Low Cost 50/60Hz 25A Current Transformer, Body 30.2mm x 14.3mm"
height 30.2
pads (3):
  round 2 hole 1.3: 1(-10.16,5.07) 2(10.16,5.07) 3(0,-5.09)
Top Overlay:
  circle w0.2: c-12.7,-6.09 r0.559
  lines w0.2: -5.7,-7.15 -5.7,-6.15 ; -5.7,-5.15 -5.7,-4.15 ; -5.7,-3.15 -5.7,-2.15 ; -5.7,-1.5 -5.7,-0.5 ; -5.7,0.15 -5.7,1.15 ; -5.7,2.15 -5.7,3.15 ; -5.7,4.15 -5.7,5.15 ; -5.7,6.15 -5.7,7.15 ; 5.7,-7.15 5.7,-6.15 ; 5.7,-5.15 5.7,-4.15 ; 5.7,-3.15 5.7,-2.15 ; 5.7,-1.5 5.7,-0.5 ; 5.7,0.15 5.7,1.15 ; 5.7,2.15 5.7,3.15 ; 5.7,4.15 5.7,5.15 ; 5.7,6.15 5.7,7.15 ; -15.1,-7.15 -15.1,7.15 15.1,7.15 15.1,-7.15 -15.1,-7.15
Mechanical 8:
  lines w0.1: -10.66,5.07 -10.16,5.07 ; -10.16,4.57 -10.16,5.07 ; -10.16,5.57 -10.16,5.07 ; -9.66,5.07 -10.16,5.07 ; -0.5,-5.09 0,-5.09 ; -0.5,0 0,0 ; 0,-5.59 0,-5.09 ; 0,-4.59 0,-5.09 ; 0,-0.5 0,0 ; 0,0.5 0,0 ; 0.5,-5.09 0,-5.09 ; 0.5,0 0,0 ; 9.66,5.07 10.16,5.07 ; 10.16,4.57 10.16,5.07 ; 10.16,5.57 10.16,5.07 ; 10.66,5.07 10.16,5.07
Mechanical 14:
  circle w0.1: c-12.7,-6.09 r0.559
  lines w0.1: -5.7,-7.15 -5.7,-6.15 ; -5.7,-5.15 -5.7,-4.15 ; -5.7,-3.15 -5.7,-2.15 ; -5.7,-1.5 -5.7,-0.5 ; -5.7,0.15 -5.7,1.15 ; -5.7,2.15 -5.7,3.15 ; -5.7,4.15 -5.7,5.15 ; -5.7,6.15 -5.7,7.15 ; 5.7,-7.15 5.7,-6.15 ; 5.7,-5.15 5.7,-4.15 ; 5.7,-3.15 5.7,-2.15 ; 5.7,-1.5 5.7,-0.5 ; 5.7,0.15 5.7,1.15 ; 5.7,2.15 5.7,3.15 ; 5.7,4.15 5.7,5.15 ; 5.7,6.15 5.7,7.15 ; -15.1,-7.15 15.1,-7.15 15.1,7.15 -15.1,7.15 -15.1,-7.15
3D body "XFMR_TALEMA_AC1025.stp": height 30.19, standoff -3.8, extent -15.1,-7.15 15.1,7.15

## XFMR_TCT_SC120006-02 [mm] "Pulse Transformer"
height 40
pads (6):
  round 2 hole 1.3: 1(-15.42,-20.5) 2(-20.5,-15.42) 3(-20.5,-20.5) 4(21.51,17.7) 5(17.7,21.51)
  round 1 hole 4.4 unplated mask+1.7: 6(0,0)
Bottom Layer keep-out:
  region: 0,-4 -0.262,-4 -0.782,-3.932 -1.289,-3.796 -1.773,-3.595 -2.227,-3.333 -2.643,-3.014 -3.014,-2.643 -3.333,-2.227 -3.595,-1.773 -3.796,-1.289 -3.932,-0.782 -4,-0.262 -4,0 -4,0.262 -3.932,0.782 -3.796,1.289 -3.595,1.773 -3.333,2.227 -3.014,2.643 -2.643,3.014 -2.227,3.333 -1.773,3.595 -1.289,3.796 -0.782,3.932 -0.262,4 0,4 0.262,4 0.782,3.932 1.289,3.796 1.773,3.595 2.227,3.333 2.643,3.014 3.014,2.643 3.333,2.227 3.595,1.773 3.796,1.289 3.932,0.782 4,0.262 4,0 4,-0.262 3.932,-0.782 3.796,-1.289 3.595,-1.773 3.333,-2.227 3.014,-2.643 2.643,-3.014 2.227,-3.333 1.773,-3.595 1.289,-3.796 0.782,-3.932 0.262,-4
Top Overlay:
  lines w0.2: -24.5,-24.5 -24.5,14.9 ccw(c-24.5,16.9) -24.5,18.9 -24.5,24.5 24.5,24.5 24.5,-24.5 -24.5,-24.5
  text "5" at 15.172,19.825 h1.2
  text "4" at 18.943,17.025 h1.2
  text "3" at -23.013,-23.225 h1.2
  text "2" at -23.368,-15.725 h1.2
  text "1" at -15.434,-23.475 h1.2
Mechanical 8:
  lines w0.1: -21,-20.5 -20.5,-20.5 ; -21,-15.42 -20.5,-15.42 ; -20.5,-21 -20.5,-20.5 ; -20.5,-20 -20.5,-20.5 ; -20.5,-15.92 -20.5,-15.42 ; -20.5,-14.92 -20.5,-15.42 ; -20,-20.5 -20.5,-20.5 ; -20,-15.42 -20.5,-15.42 ; -15.92,-20.5 -15.42,-20.5 ; -15.42,-21 -15.42,-20.5 ; -15.42,-20 -15.42,-20.5 ; -14.92,-20.5 -15.42,-20.5 ; -0.5,0 0,0 ; 0,-0.5 0,0 ; 0,0.5 0,0 ; 0.5,0 0,0 ; 17.2,21.51 17.7,21.51 ; 17.7,21.01 17.7,21.51 ; 17.7,22.01 17.7,21.51 ; 18.2,21.51 17.7,21.51 ; 21.01,17.7 21.51,17.7 ; 21.51,17.2 21.51,17.7 ; 21.51,18.2 21.51,17.7 ; 22.01,17.7 21.51,17.7
Mechanical 14:
  circle w0.1: c0,0 r2.2
  lines w0.1: -24.5,-24.5 -24.5,14.9 ccw(c-24.5,16.9) -24.5,18.9 -24.5,24.5 24.5,24.5 24.5,-24.5 -24.5,-24.5
  text "5" at 15.172,19.825 h1.2
  text "4" at 18.943,17.025 h1.2
  text "3" at -23.013,-23.225 h1.2
  text "2" at -23.368,-15.725 h1.2
  text "1" at -15.434,-23.475 h1.2
3D body "XFMR_TCT_SC120006-02.stp": height 40, standoff -3.6, extent -24.5,-24.5 24.5,24.5

## XFMR_TRIAD_CST206-1A [mm] "Current Sensing Transformer - Body 27.305 x 10.16mm x 31.115 H"
height 31.115
pads (2):
  round 2.1 hole 1.4: 1(-6.35,0) 2(6.35,0)
Top Overlay:
  lines w0.2: -4.572,-5.08 -4.572,-4.5 ; -4.572,-3.5 -4.572,-2.5 ; -4.572,-1.5 -4.572,-0.5 ; -4.572,0.5 -4.572,1.5 ; -4.572,2.5 -4.572,3.5 ; -4.572,4.5 -4.572,5.08 ; 0,-2.5 0,0.5 ; 4.572,-5.08 4.572,-4.5 ; 4.572,-3.5 4.572,-2.5 ; 4.572,-1.5 4.572,-0.5 ; 4.572,0.5 4.572,1.5 ; 4.572,2.5 4.572,3.5 ; 4.572,4.5 4.572,5.08 ; 0,0.5 1,0.5 0,2.5 -1,0.5 0,0.5 ; -13.653,-5.08 0,-5.08 13.653,-5.08 13.653,5.08 0,5.08 -13.653,5.08 -13.653,-5.08
  text "1" at -6.636,-3.417 h1.2
Mechanical 8:
  lines w0.1: -6.85,0 -6.35,0 ; -6.35,-0.5 -6.35,0 ; -6.35,0.5 -6.35,0 ; -5.85,0 -6.35,0 ; -0.5,0 0,0 ; 0,-0.5 0,0 ; 0,0.5 0,0 ; 0.5,0 0,0 ; 5.85,0 6.35,0 ; 6.35,-0.5 6.35,0 ; 6.35,0.5 6.35,0 ; 6.85,0 6.35,0
Mechanical 14:
  lines w0.1: -4.572,-5.08 -4.572,-4.5 ; -4.572,-3.5 -4.572,-2.5 ; -4.572,-1.5 -4.572,-0.5 ; -4.572,0.5 -4.572,1.5 ; -4.572,2.5 -4.572,3.5 ; -4.572,4.5 -4.572,5.08 ; 0,-2.5 0,0.5 ; 4.572,-5.08 4.572,-4.5 ; 4.572,-3.5 4.572,-2.5 ; 4.572,-1.5 4.572,-0.5 ; 4.572,0.5 4.572,1.5 ; 4.572,2.5 4.572,3.5 ; 4.572,4.5 4.572,5.08 ; 0,0.5 1,0.5 0,2.5 -1,0.5 0,0.5 ; -13.653,-5.08 0,-5.08 13.653,-5.08 13.653,5.08 0,5.08 -13.653,5.08 -13.653,-5.08
  text "1" at -6.636,-3.417 h1.2
3D body "XFMR_TRIAD_CST206-1A.stp": height 31.11, standoff -3.6, extent -13.652,-5.08 13.653,5.08